# Altium schematic symbol library NCM3S1212MC-R7.SchLib: 1 symbol
Pins are listed as number, name and electrical type; pins without a type are passive.

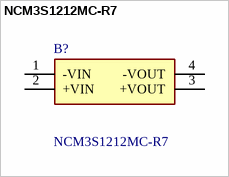
[diagram p0: symbol NCM3S1212MC-R7]

## NCM3S1212MC-R7
designator B?
Surface Mount Isolated Module DC DC Converter 1 Output 12V 250mA 9V - 36V Input -40C ~ 105C  4-SMD Module; Manufacturer_Name: Murata Electronics; Geometry.Height: 5.95mm; Manufacturer_Part_Number: NCM3S1212MC-R7; Mouser Part Number: *; Mouser Price/Stock: *; Arrow Part Number: *; Arrow Price/Stock: *; Datasheet Link: https://pim.murata.com/asset/pim4/isolatedDCDCconverter/KDC_NCM3_PDF_ISOLATEDDCDCCONVERTER?lastModifiedDatetime=20250826165014
footprint NCM3S1212MCR7
pins: 1 -VIN, 2 +VIN, 3 +VOUT, 4 -VOUT